# EAGLE library part RASPBERRY-PI_REV2 (library RaspberryPi)
Raspberry Pi Board <http://www.raspberrypi.org/> Jacques Lagnel V1.0 (beta) 2012 Mateusz Bawaj V1.1 (beta) 2012 Board dimension: Forum 3D model <http://www.raspberrypi.org/forum/general-discussion/mechanical-profile-3d-models?value=3d%20model&type=1&include=1&search=1&ret=all> The GPIO Connector (P1): http://elinux.org/RPi_Low-level_peripherals The GPIO Connector (P5): http://www.raspberrypi-spy.co.uk/2012/09/raspberry-pi-p5-header/
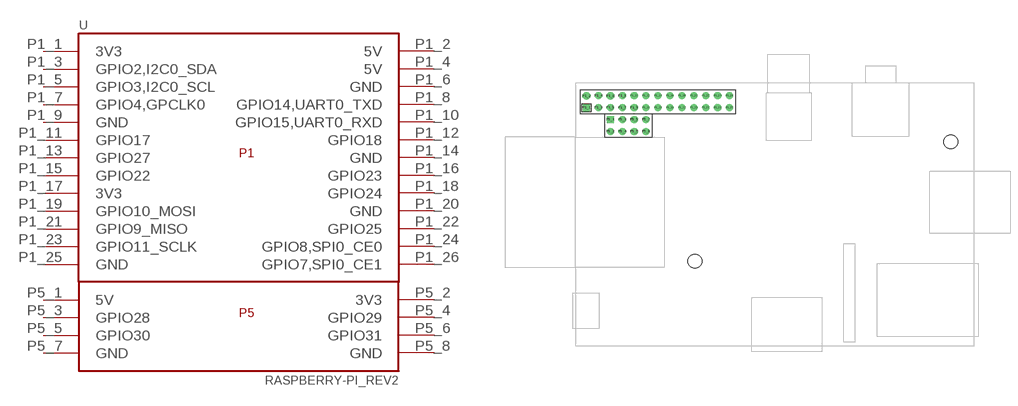
[diagram p0: symbol with the pads of RASPBERRY-PI_REV2; footprint RASPBERRY-PI_REV2]

Designator prefix -

## RASPBERRY-PI_REV2  [RASPBERRY-PI_REV2]
P1_1  3V3
P1_2  5V
P1_3  GPIO2,I2C0_SDA
P1_4  5V
P1_5  GPIO3,I2C0_SCL
P1_6  GND
P1_7  GPIO4,GPCLK0
P1_8  GPIO14,UART0_TXD
P1_9  GND
P1_10  GPIO15,UART0_RXD
P1_11  GPIO17
P1_12  GPIO18
P1_13  GPIO27
P1_14  GND
P1_15  GPIO22
P1_16  GPIO23
P1_17  3V3
P1_18  GPIO24
P1_19  GPIO10_MOSI
P1_20  GND
P1_21  GPIO9_MISO
P1_22  GPIO25
P1_23  GPIO11_SCLK
P1_24  GPIO8,SPI0_CE0
P1_25  GND
P1_26  GPIO7,SPI0_CE1
P5_1  5V
P5_2  3V3
P5_3  GPIO28
P5_4  GPIO29
P5_5  GPIO30
P5_6  GPIO31
P5_7  GND
P5_8  GND

## Footprint RASPBERRY-PI_REV2 (pad centres in mm)
drill 1 square: P1_1 2.4,50.725; P5_1 7.48,48.185
drill 1 pad 1.676: P1_2 2.4,53.265; P1_6 7.48,53.265
drill 1: P1_3 4.94,50.725; P1_4 4.94,53.265; P1_5 7.48,50.725; P1_7 10.02,50.725; P1_8 10.02,53.265; P1_9 12.56,50.725; P1_10 12.56,53.265; P1_11 15.1,50.725; P1_12 15.1,53.265; P1_13 17.64,50.725; P1_14 17.64,53.265; P1_15 20.18,50.725; P1_16 20.18,53.265; P1_17 22.72,50.725; P1_18 22.72,53.265; P1_19 25.26,50.725; P1_20 25.26,53.265; P1_21 27.8,50.725; P1_22 27.8,53.265; P1_23 30.34,50.725; P1_24 30.34,53.265; P1_25 32.88,50.725; P1_26 32.88,53.265; P5_2 7.48,45.645; P5_3 10.02,48.185; P5_4 10.02,45.645; P5_5 12.56,48.185; P5_6 12.56,45.645; P5_7 15.1,48.185; P5_8 15.1,45.645
hole 2.9 at 80,43.5
hole 2.9 at 25.5,18